# Altium footprint library JCD.PcbLib: 1 footprints
Each footprint in its own frame and in the unit in brackets; x right, y up, seen from the top. Pads: shape width x height; smd on the part's side, far side on the other; paste and mask are expansions set on the pad; w line width, h text height; cw(c..) or ccw(c..) is an arc to the next point about the centre after c.
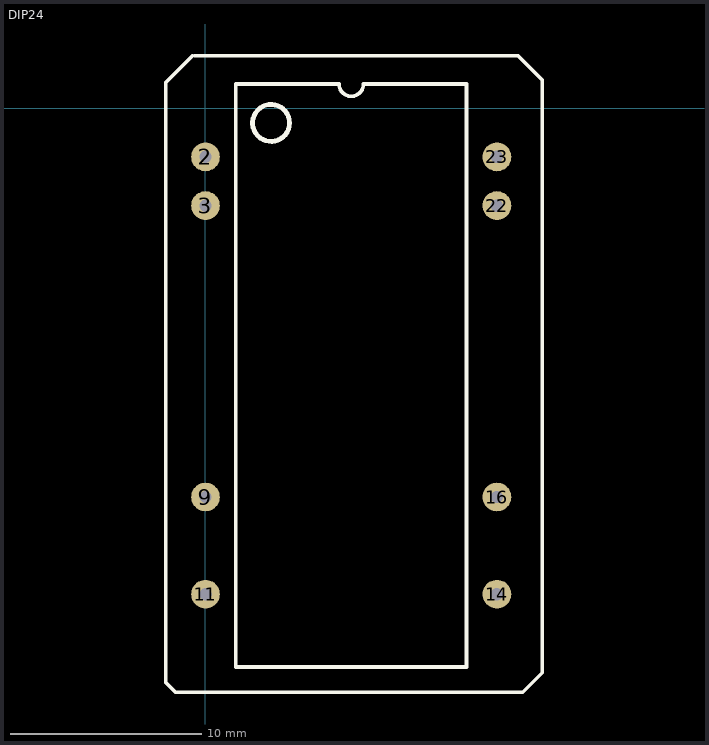
[diagram p0: the footprint, top view; thin cyan lines are the x and y axes]

## DIP24 [mm]
pads (8):
  round 1.5 hole 0.65: 2(0,-2.54) 3(0,-5.08) 9(0,-20.32) 11(0,-25.4) 14(15.24,-25.4) 16(15.24,-20.32) 22(15.24,-5.08) 23(15.24,-2.54)
Top Overlay:
  circle w0.254: c3.429,-0.762 r0.967
  lines w0.2: -0.68,2.749 -2.077,1.352 -2.077,1.225 -2.077,-30.017 -1.569,-30.525 16.592,-30.525 17.608,-29.509 17.608,1.479 16.338,2.749 -0.553,2.749 ; 1.585,-29.21 1.585,1.27 6.985,1.27 ccw(c7.62,1.27) 8.255,1.27 13.655,1.27 13.655,-29.21 1.585,-29.21
3D body: height 10.4, standoff 0.2, extent -1.27,-29.527 16.51,1.587